# EAGLE library part ATTINY25 (library Atmel)
ATtiny25-45-85
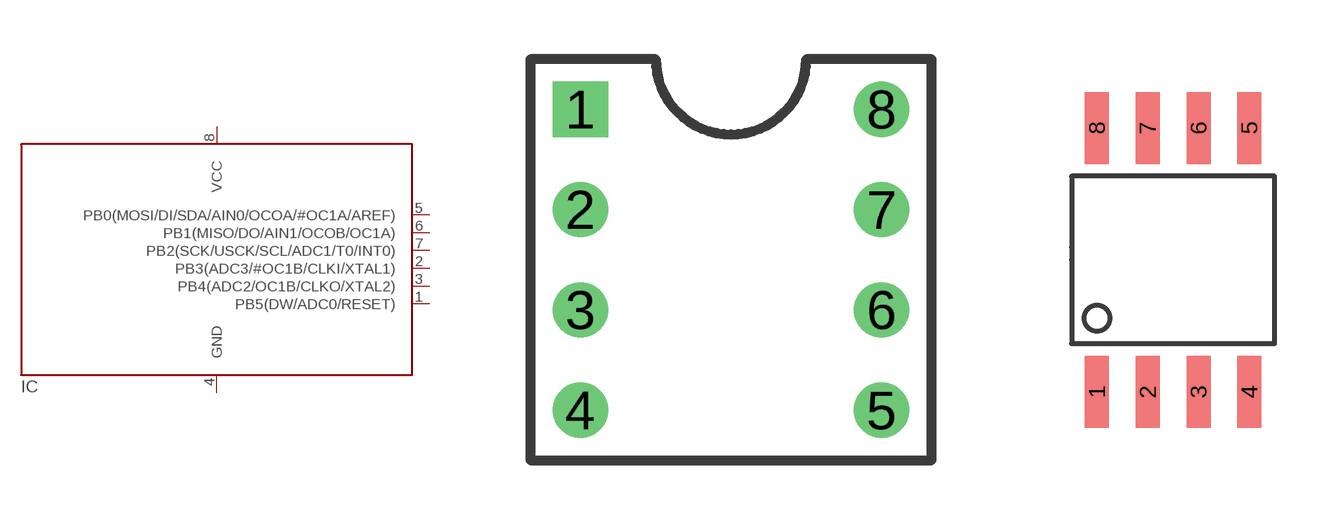
[diagram p1: symbol with the pads of DIP8C; footprints DIP8C, SOIC8-8S2]

Designator prefix IC

## ATTINY25-PU  [DIP8C]
1  PB5(DW/ADC0/RESET)
2  PB3(ADC3/#OC1B/CLKI/XTAL1)
3  PB4(ADC2/OC1B/CLKO/XTAL2)
4  GND
5  PB0(MOSI/DI/SDA/AIN0/OCOA/#OC1A/AREF)
6  PB1(MISO/DO/AIN1/OCOB/OC1A)
7  PB2(SCK/USCK/SCL/ADC1/T0/INT0)
8  VCC

## ATTINY25-SU  [SOIC8-8S2]
Pads as for DIP8C

## ATTINY25-MU  [MLF20]
1  PB5(DW/ADC0/RESET)
2  PB3(ADC3/#OC1B/CLKI/XTAL1)
5  PB4(ADC2/OC1B/CLKO/XTAL2)
8  GND
11  PB0(MOSI/DI/SDA/AIN0/OCOA/#OC1A/AREF)
12  PB1(MISO/DO/AIN1/OCOB/OC1A)
14  PB2(SCK/USCK/SCL/ADC1/T0/INT0)
15  VCC

## Footprint DIP8C (pad centres in mm)
drill 0.889 square: 1 -3.81,3.81
drill 0.889 round: 2 -3.81,1.27; 3 -3.81,-1.27; 4 -3.81,-3.81; 5 3.81,-3.81; 6 3.81,-1.27; 7 3.81,1.27; 8 3.81,3.81

## Footprint SOIC8-8S2 (pad centres in mm)
Atmel 8S2, 8-lead, 0.209", Plastic SOIC
smd 0.6 x 1.8: 1 -1.905,-3.302; 2 -0.635,-3.302; 3 0.635,-3.302; 4 1.905,-3.302; 5 1.905,3.302; 6 0.635,3.302; 7 -0.635,3.302; 8 -1.905,3.302

## Footprint MLF20 (pad centres in mm)
Atmel QFN/MLF-20, Atmel package code 20M1
smd 0.6 x 0.3: 1 -1.75,1; 2 -1.75,0.5; 3 -1.75,0; 4 -1.75,-0.5; 5 -1.75,-1; 11 1.75,-1; 12 1.75,-0.5; 13 1.75,0; 14 1.75,0.5; 15 1.75,1
smd 0.3 x 0.6: 6 -1,-1.75; 7 -0.5,-1.75; 8 0,-1.75; 9 0.5,-1.75; 10 1,-1.75; 16 1,1.75; 17 0.5,1.75; 18 0,1.75; 19 -0.5,1.75; 20 -1,1.75